# Altium footprint library Connectors - Power.PcbLib: 1 footprints
Each footprint in its own frame and in the unit in brackets; x right, y up, seen from the top. Pads: shape width x height; smd on the part's side, far side on the other; paste and mask are expansions set on the pad; w line width, h text height; cw(c..) or ccw(c..) is an arc to the next point about the centre after c.
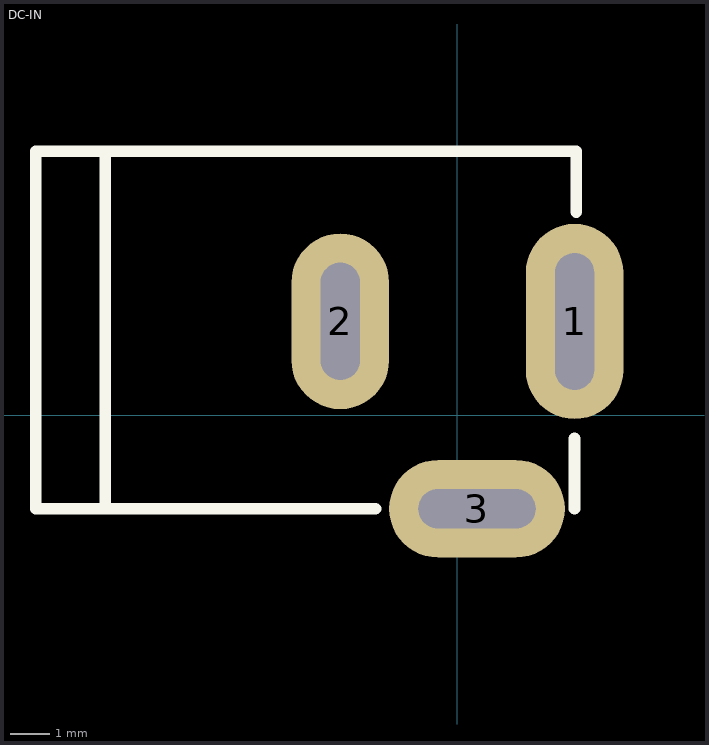
[diagram p0: the footprint, top view; thin cyan lines are the x and y axes]

## DC-IN [mm] "Jac DC input"
height 5.08
pads (3):
  oval 2.5x5 hole 1 slot 3.5 at 90 deg: 1(3,2.4)
  oval 2.5x4.5 hole 1 slot 3 at 90 deg: 2(-3,2.4)
  oval 4.5x2.5 hole 1 slot 3 at 0 deg: 3(0.5,-2.4)
Top Overlay:
  lines w0.3: -9.022,-2.4 -9.022,6.755 ; -2.1,-2.4 -10.8,-2.4 -10.8,6.755 3.043,6.755 3.043,5.2 ; 3,-2.4 3,-0.6
Top HCB:
  lines w0.05: -9.022,-2.4 -9.022,6.755 ; -2.1,-2.4 -10.8,-2.4 -10.8,6.755 3.043,6.755 3.043,5.2 ; 3,-2.4 3,-0.6
3D body "SW3dPS-dc range - dc connector[4840.2201].STEP": height 11.02, standoff -3.48, extent -10.5,-2.603 3.326,6.903